# Altium schematic symbol library SRR1260-120M.SchLib: 2 symbols
Pins are listed as number, name and electrical type; pins without a type are passive.

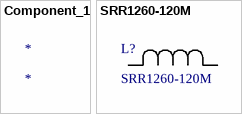
[diagram p0: symbols Component_1 to SRR1260-120M]

## Component_1
designator *

## SRR1260-120M
designator L?
No Description Available; Vendor: Bourns Electronics; Built_By: EMA_UL_Team; SourceLibrary: Bourns_2010-01-01_IND_SRRxxxx; Type: DEV; Manufacturer_Part_Number: SRR1260-120M; Copyright: Copyright (C) 2018 Accelerated Designs. All rights reserved; RefDes: RefDes
footprint IND_BOURNS_SRR1260
pins: 1, 2